# Altium integrated library TSW-109-07-L-S.IntLib: 1 symbol
Pins are listed as number, name and electrical type; pins without a type are passive.

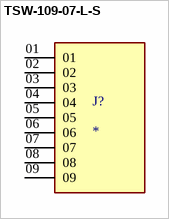
[diagram p0: symbol TSW-109-07-L-S]

## TSW-109-07-L-S
designator J?
MF: Samtec Inc.; MP: TSW-109-07-L-S; Package: None; Price: None; Value: *; Availability: Unavailable
footprint SAMTEC_TSW-109-07-L-S
pins: 01, 02, 03, 04, 05, 06, 07, 08, 09